# Altium footprint library TJC3-10A.PcbLib: 1 footprints
Each footprint in its own frame and in the unit in brackets; x right, y up, seen from the top. Pads: shape width x height; smd on the part's side, far side on the other; paste and mask are expansions set on the pad; w line width, h text height; cw(c..) or ccw(c..) is an arc to the next point about the centre after c.
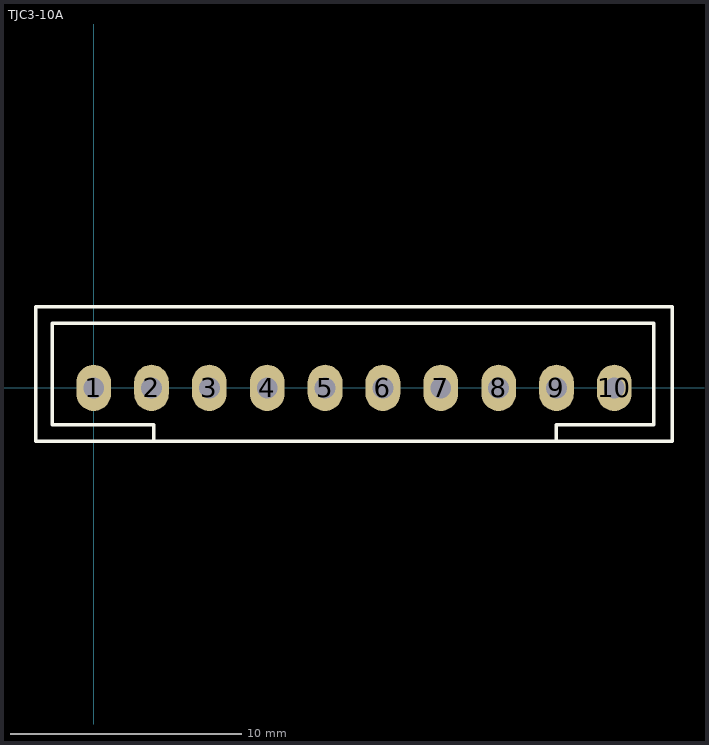
[diagram p0: the footprint, top view; thin cyan lines are the x and y axes]

## TJC3-10A [mm]
pads (10):
  oval 1.5x2 hole 0.9: 1(0,0) 2(2.5,0) 3(5,0) 4(7.5,0) 5(10,0) 6(12.5,0) 7(15,0) 8(17.5,0) 9(20,0) 10(22.5,0)
Top Overlay:
  lines w0.15: 2.6,-2.3 2.6,-1.6 -1.8,-1.6 -1.8,2.8 24.2,2.8 24.2,-1.6 20,-1.6 20,-2.3 ; -2.5,-2.3 25,-2.3 25,3.5 -2.5,3.5 -2.5,-2.3